# EAGLE library part TPS51206DSQR (library TPS51206DSQR)
2A Peak Sink/Source DDR Termination Regulator with VTTREF Buffered Reference for DDR2/3/3L/4 Source: Datasheet <http://www.ti.com/lit/ds/symlink/tps51206.pdf>
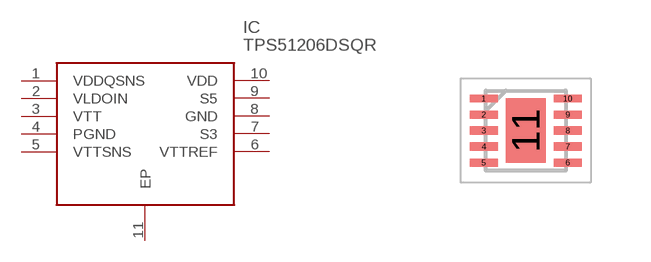
[diagram p0: symbol with the pads of SON40P200X200X80-11N; footprint SON40P200X200X80-11N]

Designator prefix IC

## TPS51206DSQR (Arrow_Part_Number: TPS51206DSQR; Arrow_Price-Stock: https://www.arrow.com/en/products/tps51206dsqr/texas-instruments?region=nac; Description: 2A Peak Sink/Source DDR Termination Regulator with VTTREF Buffered Reference for DDR2/3/3L/4; Height: 0.8mm; Manufacturer_Name: Texas Instruments; Manufacturer_Part_Number: TPS51206DSQR; Mouser_Part_Number: 595-TPS51206DSQR; Mouser_Price-Stock: https://www.mouser.co.uk/ProductDetail/Texas-Instruments/TPS51206DSQR?qs=%252BG2H6gVb6ixLbD%2FQxTGyiQ%3D%3D)  [SON40P200X200X80-11N]
1  VDDQSNS
2  VLDOIN
3  VTT
4  PGND
5  VTTSNS
6  VTTREF
7  S3
8  GND
9  S5
10  VDD
11  EP

## Footprint SON40P200X200X80-11N (pad centres in mm)
DSQ0010A
smd 0.7 x 0.2: 1 -1.05,0.8; 2 -1.05,0.4; 3 -1.05,0; 4 -1.05,-0.4; 5 -1.05,-0.8; 6 1.05,-0.8; 7 1.05,-0.4; 8 1.05,0; 9 1.05,0.4; 10 1.05,0.8
smd 1 x 1.6: 11 0,0